# EAGLE library part 2X04 (library Ai_Connectors)
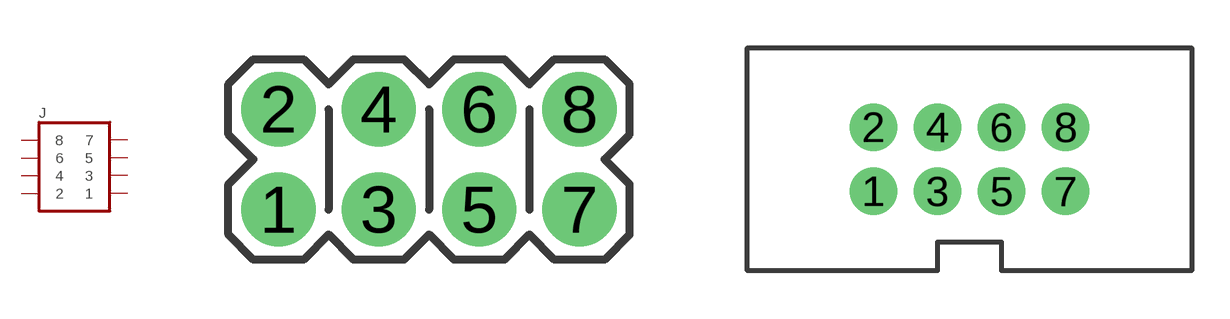
[diagram p14: symbol with the pads of 2X04; footprints 2X04, 2X04-SHR]

Designator prefix J

## 2X04  [2X04]
1  1
2  2
3  3
4  4
5  5
6  6
7  7
8  8

## 2X04SHR  [2X04-SHR]
Pads as for 2X04

## Footprint 2X04 (pad centres in mm)
drill 1.016 pad 1.88: 1 -3.81,-1.27; 2 -3.81,1.27; 3 -1.27,-1.27; 4 -1.27,1.27; 5 1.27,-1.27; 6 1.27,1.27; 7 3.81,-1.27; 8 3.81,1.27

## Footprint 2X04-SHR (pad centres in mm)
drill 1.016 pad 1.88: 1 -3.81,-1.27; 2 -3.81,1.27; 3 -1.27,-1.27; 4 -1.27,1.27; 5 1.27,-1.27; 6 1.27,1.27; 7 3.81,-1.27; 8 3.81,1.27